# Altium footprint library PowerHAT_1A1.PcbLib: 24 footprints (part 1 of 2)
Each footprint in its own frame and in the unit in brackets; x right, y up, seen from the top. Pads: shape width x height; smd on the part's side, far side on the other; paste and mask are expansions set on the pad; w line width, h text height; cw(c..) or ccw(c..) is an arc to the next point about the centre after c.
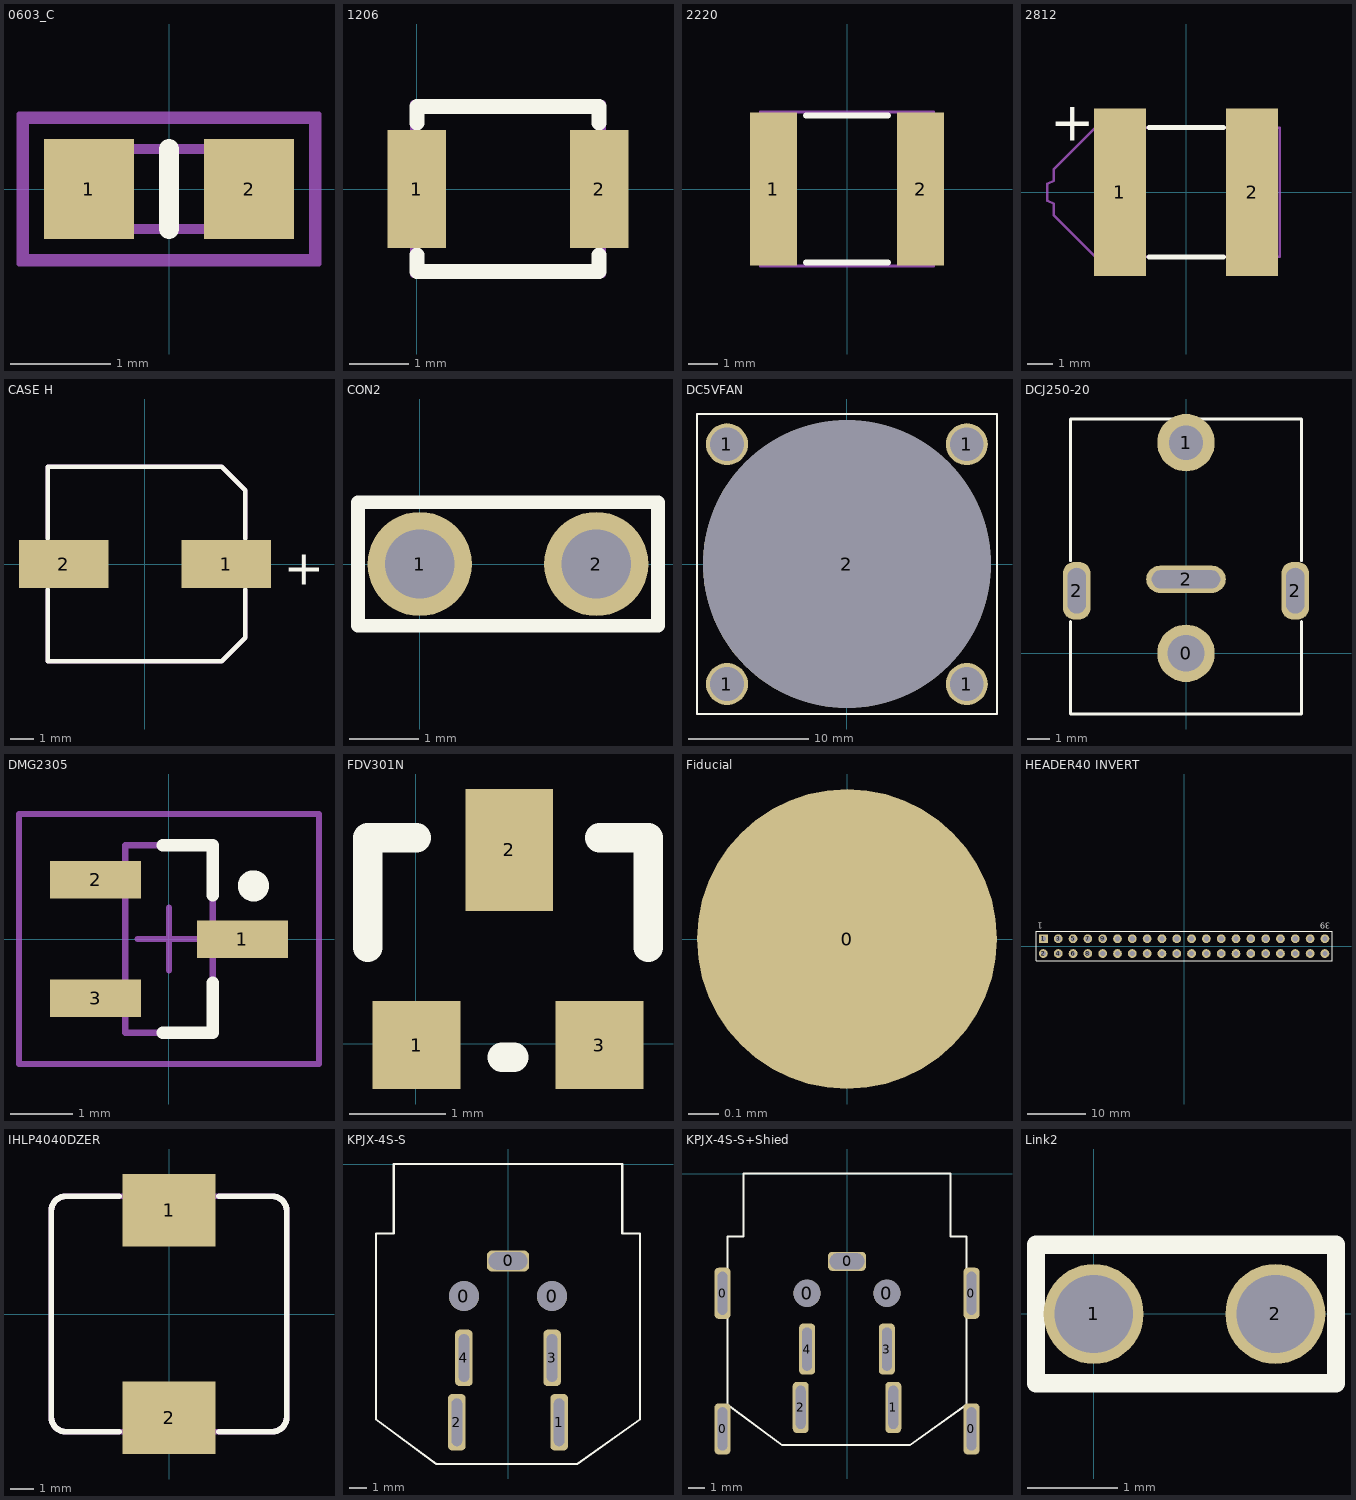
[diagram p0: the footprints below, top view; thin cyan lines are the x and y axes]

## 0603_C [mm]
height 1.6
pads (2):
  rect 0.9x1 smd: 1(-0.8,0) 2(0.8,0)
Top Overlay:
  lines w0.2: 0,-0.4 0,0.4
Mechanical 13:
  lines w0.01: -0.5,-0.4 -0.5,0.4 ; -0.5,-0.4 0.5,-0.4 ; -0.5,-0.4 -0.5,0.4 ; -0.5,-0.4 -0.8,-0.4 -0.8,0.4 -0.5,0.4 ; -0.5,0.4 0.5,0.4 ; 0.5,-0.4 0.5,0.4 ; 0.5,-0.4 0.5,0.4 ; 0.5,-0.4 0.8,-0.4 0.8,0.4 0.5,0.4
Mechanical 15:
  lines w0.1: -1.45,-0.7 -1.45,0.7 1.45,0.7 1.45,-0.7 -1.45,-0.7
Mechanical 16:
  lines w0.05: -1.5,-0.75 -1.5,0.75 1.5,0.75 1.5,-0.75 -1.5,-0.75
  lines w0.1: -0.499,0.399 -0.499,-0.399 ; 0.499,0.399 0.799,0.399 0.8,0.399 0.8,-0.4 ; -0.799,0.399 -0.799,-0.399 -0.799,-0.4 -0.499,-0.4 ; -0.8,0.4 -0.799,0.399 ; -0.8,0.4 -0.5,0.4 0.5,0.4 0.5,-0.4 ; -0.499,-0.4 0.5,-0.4 ; -0.499,-0.399 -0.499,-0.4 ; 0.501,-0.399 0.799,-0.399 ; 0.799,-0.399 0.8,-0.4
3D body: height 0.8, standoff 0, extent -0.799,-0.399 -0.501,0.399
3D body: height 0.8, standoff 0, extent 0.501,-0.399 0.799,0.399
3D body: height 0.8, standoff 0, extent -0.499,-0.399 0.499,0.399

## 1206 [mm] "Multicomp HP06"
height 0.55
pads (2):
  rect 1x2 smd: 1(0,0) 2(3.1,0)
Top Overlay:
  lines w0.254: 0,-1.125 0,-1.4 3.1,-1.4 3.1,-1.125 ; 0,1.125 0,1.4 3.1,1.4 3.1,1.125
Mechanical 13:
  lines w0.125: -0.05,-1.45 -0.05,1.45 3.15,1.45 3.15,-1.45 -0.05,-1.45
3D body: height 0.45, standoff 0, extent 2.6,-1.1 3.1,1.1
3D body: height 0.45, standoff 0, extent 0,-1.1 0.5,1.1
3D body: height 0.45, standoff 0, extent 0.5,-1.1 2.6,1.1

## 2220 [mm] "Chip Capacitor, Body 5.7x5.0mm, IPC High Density"
height 1.4
pads (2):
  rect 1.6x5.2 smd: 1(-2.5,0) 2(2.5,0)
Top Overlay:
  lines w0.2: -1.4,-2.5 1.4,-2.5 ; -1.4,2.5 1.4,2.5
Mechanical 13:
  lines w0.1: -2.95,-2.625 2.95,-2.625 2.95,2.625 -2.95,2.625 -2.95,-2.625
3D body: height 1.4, standoff 0, extent -2.95,-2.625 2.95,2.625

## 2812 [mm] "Tantalum Capacitor, Body 7.5x6.3mm, IPC High Density"
height 2
pads (2):
  rect 2.05x6.6 smd: 1(-2.6,0) 2(2.6,0)
Top Overlay:
  lines w0.2: -1.457,-2.54 1.464,-2.54 ; -1.457,2.54 1.464,2.54
  text "+" at -5.334,2.032 h1.52
Mechanical 13:
  lines w0.1: -5.461,-0.333 -5.461,0.333 -5.207,0.445 -5.207,0.889 -3.556,2.54 3.683,2.54 3.683,-2.54 -3.556,-2.54 -5.207,-0.889 -5.207,-0.445 -5.461,-0.333
3D body: height 2, standoff 0, extent -5.207,-2.54 -2.413,2.54
3D body: height 2, standoff 0, extent -5.461,-0.254 -5.207,0.254
3D body: height 2, standoff 0, extent 2.413,-2.54 3.683,2.54
3D body: height 1.9, standoff 0.1, extent -3.235,-2.413 3.242,2.413

## CASE H [mm]
height 1.1
pads (2):
  rect 3.85x2.05 smd: 1(3.5,0) 2(-3.5,0)
Top Overlay:
  lines w0.2: -4.191,-1.088 -4.191,-4.191 3.302,-4.191 4.318,-3.175 4.318,-1.088 ; -4.191,1.088 -4.191,4.191 3.302,4.191 4.318,3.175 4.318,1.088
  text "+" at 5.974,-0.889 h1.52
Mechanical 13:
  lines w0.2: -4.191,-1.143 -4.191,-4.191 3.302,-4.191 4.318,-3.175 4.318,-1.143 ; -4.191,1.143 -4.191,4.191 3.302,4.191 4.318,3.175 4.318,1.143
3D body: height 10.71, standoff 0.2, extent -3.436,-3.497 3.564,3.497
3D body: height 0.5, standoff 0.1, extent -4.191,-4.191 4.318,4.191
3D body: height 10.7, standoff 0.2, extent -3.936,-3.997 4.064,3.997

## CON2 [mm] "2 pin wire to board"
height 0.5
pads (2):
  round 1.5 hole 1: 1(0,0) 2(2.54,0)
Top Overlay:
  lines w0.2: -0.889,-0.889 3.429,-0.889 3.429,0.889 -0.889,0.889 -0.889,-0.889

## DC5VFAN [mm] "25x25x7 DC5V Fan"
height 7
pads (5):
  round 3.5 hole 2.8: 1(-10,-10) 1(-10,10) 1(10,-10) 1(10,10)
  round 24 hole 24 unplated: 2(0,0)
Top Overlay:
  circle w0.2: c9.979,9.979 r1.27
  circle w0.2: c-9.96,9.979 r1.27
  circle w0.2: c9.979,-9.96 r1.27
  circle w0.2: c-9.96,-9.96 r1.27
  lines w0.127: -12.5,-12.5 12.519,-12.5 12.519,12.519 -12.5,12.519 -12.5,-12.5
Mechanical 13:
  lines w0.127: -12.5,-12.5 12.519,-12.5 12.519,12.519 -12.5,12.519 -12.5,-12.5
3D body: height 7.1, standoff 0, extent -12.5,0.022 -0.003,12.519
3D body: height 7.1, standoff 0, extent 0.022,0.022 12.519,12.519
3D body: height 7.1, standoff 0, extent 0.022,-12.5 12.519,-0.003
3D body: height 7.1, standoff 0, extent -12.5,-12.5 -0.003,-0.003
3D body: height 7.1, standoff 0, extent -12.5,-12.5 12.519,12.519
3D body: height 6.5, standoff 0, extent -6.99,-6.99 7.01,7.01
3D body: height 7.6, standoff 0.1, extent -11.389,8.603 -8.6,11.397
3D body: height 7.6, standoff 0.1, extent 8.611,8.603 11.4,11.397
3D body: height 7.6, standoff 0.1, extent -11.389,-11.397 -8.6,-8.603
3D body: height 7.6, standoff 0.1, extent 8.611,-11.397 11.4,-8.603

## DCJ250-20 [mm] "Power Jack"
height 10
pads (5):
  round 2.524 hole 1.62: 0(0,0)
  round 2.524 hole 1.5: 1(0,9.25)
  rrect80% 1.2x2.524 hole 0.8 slot 2 at 90 deg: 2(-4.8,2.75) 2(4.8,2.75)
  oval 3.5x1.2 hole 0.8 slot 3 at 0 deg: 2(0,3.25)
Top Overlay:
  lines w0.127: -5.08,1.397 -5.08,0 -5.08,-2.667 5.08,-2.667 5.08,1.397 ; -5.08,4.064 -5.08,10.287 5.08,10.287 5.08,4.064
3D body: height 10, standoff 0, extent -5.08,-2.667 5.08,7.62
3D body: height 10, standoff 0, extent -5.08,7.62 5.08,10.287
3D body: height 9.5, standoff 0.5, extent -4.953,-2.921 4.953,-2.159

## DMG2305 [mm] "SOT23, 3-Leads, Body 2.9x1.3mm, Pitch 0.95mm, Lead Span 2.3mm - Reverse Pinning, IPC Low Density"
height 1.1
pads (3):
  rect 1.45x0.6 smd: 1(1.175,0) 2(-1.175,0.95) 3(-1.175,-0.95)
Top Overlay:
  circle w0.25: c1.35,0.85 r0.125
  lines w0.2: -0.1,-1.5 0.7,-1.5 0.7,-0.7 ; -0.1,1.5 0.7,1.5 0.7,0.7
Mechanical 13:
  lines w0.1: -0.7,-1.5 -0.7,1.5 0.7,1.5 0.7,-1.5 -0.7,-1.5
Mechanical 15:
  lines w0.1: -0.5,0 0.5,0 ; 0,-0.5 0,0.5 ; -2.4,-2 -2.4,2 2.4,2 2.4,-2 -2.4,-2
3D body: height 1.1, standoff 0, extent -0.7,-1.5 0.7,1.5

## FDV301N [mil]
pads (3):
  rect 36x36 smd: 1(0.24,-0.5) 3(75.24,-0.5)
  rect 36x50 smd: 2(38.24,79.5)
Top Overlay:
  lines w12: -19.76,39.5 -19.76,84.5 0.24,84.5 ; 35.24,-5.5 40.24,-5.5 ; 75.24,84.5 95.24,84.5 95.24,39.5
3D body: height 39.37, standoff 3.94, extent -13.5,1.5 89,78

## Fiducial [mm] "Registration Fiducial"
pads (1):
  round 1 smd paste-1 mask+0.5: 0(0,0)

## HEADER40 INVERT [mm] "40 Pin Header"
height 10
pads (40):
  rect 1.5x1.5 hole 0.9: 1(-24.13,1.27)
  round 1.5 hole 0.9: 2(-24.13,-1.27) 3(-21.59,1.27) 4(-21.59,-1.27) 5(-19.05,1.27) 6(-19.05,-1.27) 7(-16.51,1.27) 8(-16.51,-1.27) 9(-13.97,1.27) 10(-13.97,-1.27) 11(-11.43,1.27) 12(-11.43,-1.27) 13(-8.89,1.27) 14(-8.89,-1.27) 15(-6.35,1.27) 16(-6.35,-1.27) 17(-3.81,1.27) 18(-3.81,-1.27) 19(-1.27,1.27) 20(-1.27,-1.27) 21(1.27,1.27) 22(1.27,-1.27) 23(3.81,1.27) 24(3.81,-1.27) 25(6.35,1.27) 26(6.35,-1.27) 27(8.89,1.27) 28(8.89,-1.27) 29(11.43,1.27) 30(11.43,-1.27) 31(13.97,1.27) 32(13.97,-1.27) 33(16.51,1.27) 34(16.51,-1.27) 35(19.05,1.27) 36(19.05,-1.27) 37(21.59,1.27) 38(21.59,-1.27) 39(24.13,1.27) 40(24.13,-1.27)
Top Overlay:
  lines w0.2: -25.4,-2.54 25.4,-2.54 25.4,2.54 -25.4,2.54 -25.4,-2.54
  text "1" at -24.245,3.986 h1
  text "39" at 25.031,3.986 h1
3D body: height 1, standoff -1.4, extent 23.876,1.016 24.384,1.524
3D body: height 1, standoff -1.4, extent 23.876,-1.524 24.384,-1.016
3D body: height 1, standoff -1.4, extent 21.336,1.016 21.844,1.524
3D body: height 1, standoff -1.4, extent 21.336,-1.524 21.844,-1.016
3D body: height 1, standoff -1.4, extent 18.796,1.016 19.304,1.524
3D body: height 1, standoff -1.4, extent 18.796,-1.524 19.304,-1.016
3D body: height 1, standoff -1.4, extent 16.256,-1.524 16.764,-1.016
3D body: height 1, standoff -1.4, extent 16.256,1.016 16.764,1.524
3D body: height 1, standoff -1.4, extent 13.716,1.016 14.224,1.524
3D body: height 1, standoff -1.4, extent 13.716,-1.524 14.224,-1.016
3D body: height 1, standoff -1.4, extent 11.176,-1.524 11.684,-1.016
3D body: height 1, standoff -1.4, extent 11.176,1.016 11.684,1.524
3D body: height 1, standoff -1.4, extent 8.636,1.016 9.144,1.524
3D body: height 1, standoff -1.4, extent 8.636,-1.524 9.144,-1.016
3D body: height 1, standoff -1.4, extent 6.096,-1.524 6.604,-1.016
3D body: height 1, standoff -1.4, extent 6.096,1.016 6.604,1.524
3D body: height 1, standoff -1.4, extent 3.556,1.016 4.064,1.524
3D body: height 1, standoff -1.4, extent 3.556,-1.524 4.064,-1.016
3D body: height 1, standoff -1.4, extent 1.016,-1.524 1.524,-1.016
3D body: height 1, standoff -1.4, extent 1.016,1.016 1.524,1.524
3D body: height 1, standoff -1.4, extent -1.524,1.016 -1.016,1.524
3D body: height 1, standoff -1.4, extent -1.524,-1.524 -1.016,-1.016
3D body: height 1, standoff -1.4, extent -4.064,-1.524 -3.556,-1.016
3D body: height 1, standoff -1.4, extent -4.064,1.016 -3.556,1.524
3D body: height 1, standoff -1.4, extent -6.604,1.016 -6.096,1.524
3D body: height 1, standoff -1.4, extent -6.604,-1.524 -6.096,-1.016
3D body: height 1, standoff -1.4, extent -9.144,-1.524 -8.636,-1.016
3D body: height 1, standoff -1.4, extent -9.144,1.016 -8.636,1.524
3D body: height 1, standoff -1.4, extent -11.684,1.016 -11.176,1.524
3D body: height 1, standoff -1.4, extent -11.684,-1.524 -11.176,-1.016
3D body: height 1, standoff -1.4, extent -14.224,-1.524 -13.716,-1.016
3D body: height 1, standoff -1.4, extent -14.224,1.016 -13.716,1.524
3D body: height 1, standoff -1.4, extent -16.764,1.016 -16.256,1.524
3D body: height 1, standoff -1.4, extent -16.764,-1.524 -16.256,-1.016
3D body: height 1, standoff -1.4, extent -19.304,-1.524 -18.796,-1.016
3D body: height 1, standoff -1.4, extent -19.304,1.016 -18.796,1.524
3D body: height 1, standoff -1.4, extent -21.844,1.016 -21.336,1.524
3D body: height 1, standoff -1.4, extent -21.844,-1.524 -21.336,-1.016
3D body: height 1, standoff -1.4, extent -24.384,-1.524 -23.876,-1.016
3D body: height 1, standoff -1.4, extent -24.384,1.016 -23.876,1.524
3D body: height 10, standoff 0.3, extent -25.4,-2.54 25.4,2.54

## IHLP4040DZER [mm] "Power Choke"
height 4
pads (2):
  rect 4x3.12 smd: 1(0,4.47) 2(0,-4.47)
Top Overlay:
  lines w0.254: -2.159,-5.08 -4.445,-5.08 cw(c-4.445,-4.445) -5.08,-4.445 -5.08,4.445 cw(c-4.445,4.445) -4.445,5.08 -2.159,5.08 ; 2.159,-5.08 4.445,-5.08 ccw(c4.445,-4.445) 5.08,-4.445 5.08,4.445 ccw(c4.445,4.445) 4.445,5.08 2.159,5.08
Mechanical 13:
  lines w0.254: -5.08,-4.445 ccw(c-4.445,-4.445) -4.445,-5.08 2.159,-5.08 4.445,-5.08 ccw(c4.445,-4.445) 5.08,-4.445 5.08,4.445 ccw(c4.445,4.445) 4.445,5.08 2.159,5.08 -4.445,5.08 ccw(c-4.445,4.445) -5.08,4.445 -5.08,-4.445
3D body: height 0.3, standoff 0, extent -1.905,-5.207 1.905,-5.08
3D body: height 0.3, standoff 0, extent -1.905,5.08 1.905,5.207
3D body: height 4, standoff 0, extent -5.075,-5.079 -3.81,-3.811
3D body: height 4, standoff 0, extent -5.075,3.811 -3.81,5.079
3D body: height 4, standoff 0, extent 3.815,3.811 5.08,5.079
3D body: height 4, standoff 0, extent 3.815,-5.079 5.08,-3.811
3D body: height 4, standoff 0, extent -4.445,-5.08 4.445,-4.445
3D body: height 4, standoff 0, extent -4.445,4.445 4.445,5.08
3D body: height 4, standoff 0, extent -5.08,-4.445 5.08,4.445

## KPJX-4S-S [mm] "Kycom 4 pin power connector"
height 15
pads (7):
  round 1.7 hole 1.7 unplated: 0(-2.5,-7.5) 0(2.5,-7.5)
  rrect50% 2.4x1.2 hole 1 slot 2.2 at 0 deg: 0(0,-5.5)
  rrect50% 1x3.2 hole 0.6 slot 2.7 at 90 deg: 1(2.9,-14.65) 2(-2.9,-14.65) 3(2.5,-11) 4(-2.5,-11)
Top Overlay:
  lines w0.127: -7.493,-14.478 -7.493,-3.937 -6.477,-3.937 -6.477,0 6.477,0 6.477,-3.937 7.493,-3.937 7.493,-14.478 3.937,-17.018 0,-17.018 -4.064,-17.018 -7.493,-14.478
Drill Drawing:
  lines w0.127: -7.493,-17.018 -7.493,0 7.493,0 7.493,-17.018 0,-17.018 -7.493,-17.018
3D body: height 15, standoff 13, extent -1.488,-8.863 1.5,-5.869
3D body: height 13.45, standoff 0.55, extent -6.45,-4.953 6.45,0.047
3D body: height 14, standoff 0, extent -7.493,-17.018 7.493,-3.937

## KPJX-4S-S+Shied [mm] "Kycom 4 pin power connector"
height 15
pads (11):
  rrect50% 1x3.2 hole 0.6 slot 2.7 at 90 deg: 0(-7.8,-16) 0(-7.8,-7.5) 0(7.8,-16) 0(7.8,-7.5) 1(2.9,-14.65) 2(-2.9,-14.65) 3(2.5,-11) 4(-2.5,-11)
  round 1.7 hole 1.7 unplated: 0(-2.5,-7.5) 0(2.5,-7.5)
  rrect50% 2.4x1.2 hole 1 slot 2.2 at 0 deg: 0(0,-5.5)
Top Overlay:
  lines w0.127: -7.493,-14.478 -4.064,-17.018 0,-17.018 3.937,-17.018 7.493,-14.478 7.493,-3.937 6.477,-3.937 6.477,0 -6.477,0 -6.477,-3.937 -7.493,-3.937 -7.493,-14.478
Drill Drawing:
  lines w0.127: 8,-17.5 0,-17.5 -8,-17.5 -8,0 8,0 8,-16
3D body: height 14, standoff 0, extent -7.493,-17.018 7.493,-3.937
3D body: height 13.45, standoff 0.55, extent -6.45,-4.953 6.45,0.047
3D body: height 15, standoff 13, extent -1.488,-8.863 1.5,-5.869

## Link2 [mm]
height 11.5
pads (2):
  round 1.1 hole 0.86: 1(0,0) 2(2,0)
Top Overlay:
  lines w0.2: -0.635,-0.762 -0.635,0.762 2.667,0.762 2.667,-0.762 -0.635,-0.762
3D body: height 2.5, standoff 0.1, extent -0.635,-0.762 2.667,0.762
3D body: height 6.5, standoff -2.3, extent 1.778,-0.254 2.286,0.254
3D body: height 6.5, standoff -2.3, extent -0.254,-0.254 0.254,0.254